# Altium footprint library Microphones.PcbLib: 1 footprints
Each footprint in its own frame and in the unit in brackets; x right, y up, seen from the top. Pads: shape width x height; smd on the part's side, far side on the other; paste and mask are expansions set on the pad; w line width, h text height; cw(c..) or ccw(c..) is an arc to the next point about the centre after c.
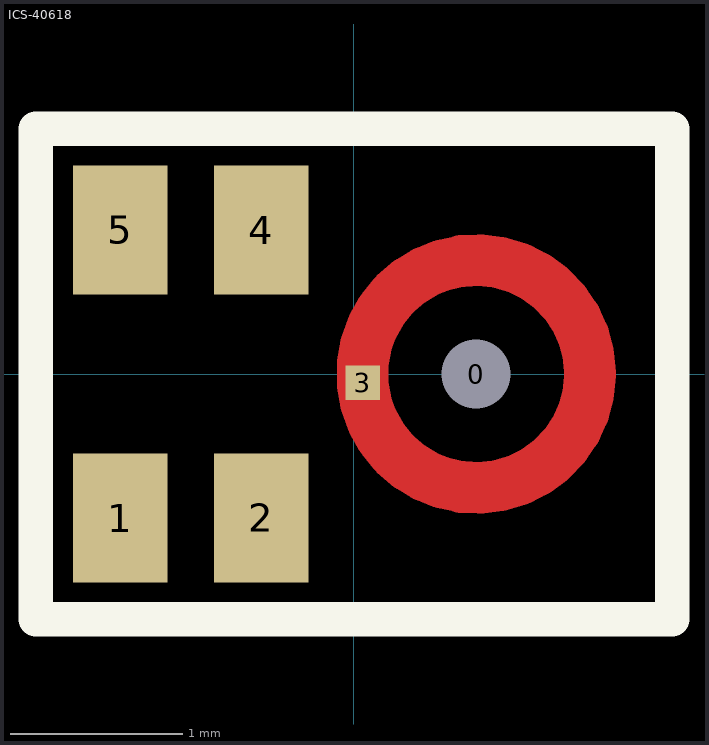
[diagram p0: the footprint, top view; thin cyan lines are the x and y axes]

## ICS-40618 [mm] "ICS-40618 MEMS microphone"
pads (6):
  round 0.2 hole 0.4 unplated: 0(0.71,0)
  rect 0.55x0.75 smd: 1(-1.36,-0.837) 2(-0.54,-0.837) 4(-0.54,0.837) 5(-1.36,0.837)
  rect 0.2x0.2 smd: 3(0.05,-0.05)
Top Layer:
  circle w0.3: c0.71,0 r0.663
Top Overlay:
  lines w0.2: -1.85,-1.425 -1.85,1.425 1.85,1.425 1.85,-1.425 -1.85,-1.425
Top Paste:
  lines w0.25: 0.048,0 ccw(c0.71,0) 0.242,-0.468 ; 0.242,0.468 cw(c0.71,0) 0.71,0.663 ; 0.71,-0.663 ccw(c0.71,0) 1.178,-0.468 ; 1.178,0.468 cw(c0.71,0) 1.373,0
3D body: height 0.98, standoff 0, extent -1.75,-1.325 1.75,1.325